# Altium footprint library XT Wonder.PcbLib: 23 footprints (part 1 of 2)
Each footprint in its own frame and in the unit in brackets; x right, y up, seen from the top. Pads: shape width x height; smd on the part's side, far side on the other; paste and mask are expansions set on the pad; w line width, h text height; cw(c..) or ccw(c..) is an arc to the next point about the centre after c.
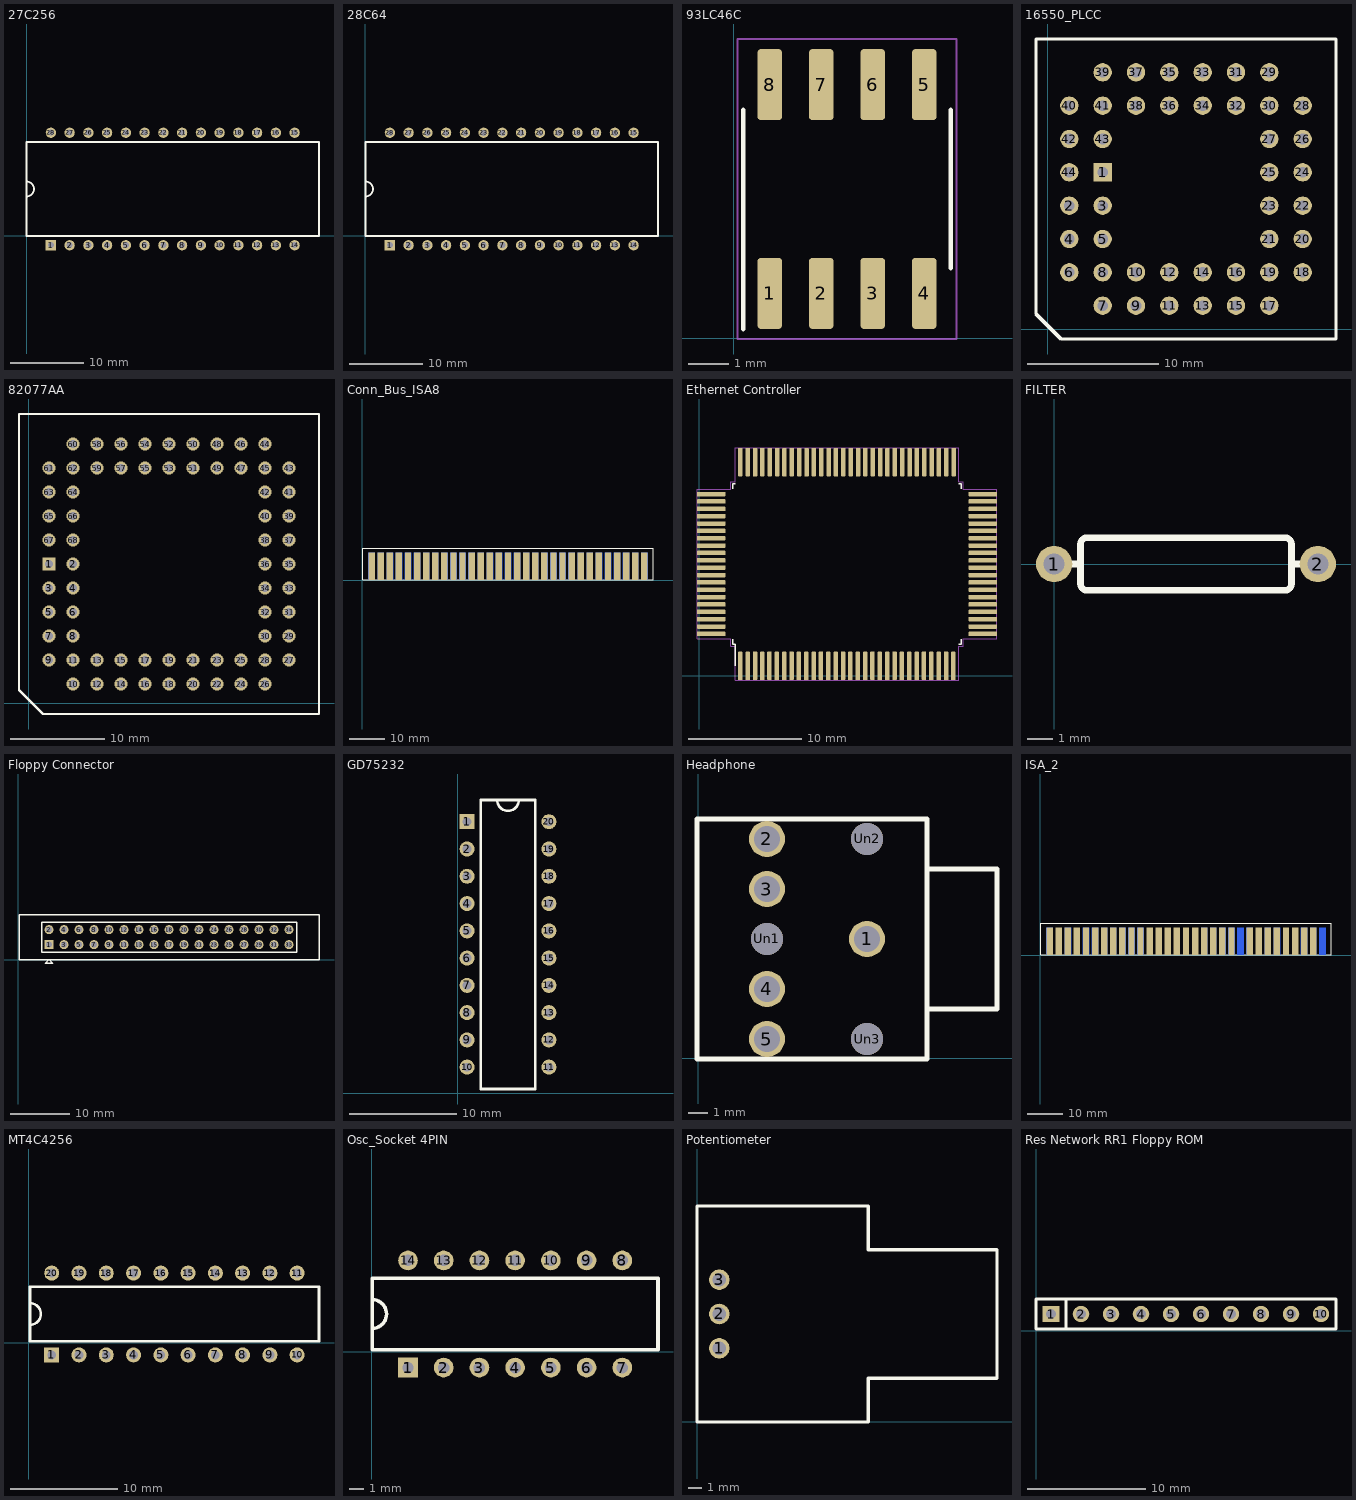
[diagram p0: the footprints below, top view; thin cyan lines are the x and y axes]

## 27C256 [mil]
pads (28):
  rect 55x55 hole 32 paste-55 mask+10: 1(130,-50)
  round 55 hole 32 paste-55 mask+10: 2(230,-50) 3(330,-50) 4(430,-50) 5(530,-50) 6(630,-50) 7(730,-50) 8(830,-50) 9(930,-50) 10(1030,-50) 11(1130,-50) 12(1230,-50) 13(1330,-50) 14(1430,-50) 15(1430,550) 16(1330,550) 17(1230,550) 18(1130,550) 19(1030,550) 20(930,550) 21(830,550) 22(730,550) 23(630,550) 24(530,550) 25(430,550) 26(330,550) 27(230,550) 28(130,550)
Top Overlay:
  lines w10: 0,210 ccw(c0,250) 40,250 ccw(c0,250) 0,290 ; 0,0 1560,0 1560,500 0,500 0,0

## 28C64 [mil]
pads (28):
  rect 55x55 hole 32 paste-55 mask+10: 1(131.8,-50.61)
  round 55 hole 32 paste-55 mask+10: 2(231.8,-50.61) 3(331.8,-50.61) 4(431.8,-50.61) 5(531.8,-50.61) 6(631.8,-50.61) 7(731.8,-50.61) 8(831.8,-50.61) 9(931.8,-50.61) 10(1031.8,-50.61) 11(1131.8,-50.61) 12(1231.8,-50.61) 13(1331.8,-50.61) 14(1431.8,-50.61) 15(1431.8,549.39) 16(1331.8,549.39) 17(1231.8,549.39) 18(1131.8,549.39) 19(1031.8,549.39) 20(931.8,549.39) 21(831.8,549.39) 22(731.8,549.39) 23(631.8,549.39) 24(531.8,549.39) 25(431.8,549.39) 26(331.8,549.39) 27(231.8,549.39) 28(131.8,549.39)
Top Overlay:
  lines w10: 1.8,209.39 ccw(c1.8,249.39) 41.8,249.39 ccw(c1.8,249.39) 1.8,289.39 ; 1.8,-0.61 1561.8,-0.61 1561.8,499.39 1.8,499.39 1.8,-0.61

## 93LC46C [mm]
pads (8):
  rrect25% 0.6x1.75 smd mask+0: 1(0.889,1.108) 2(2.159,1.108) 3(3.429,1.108) 4(4.699,1.108) 5(4.699,6.258) 6(3.429,6.258) 7(2.159,6.258) 8(0.889,6.258)
Top Overlay:
  lines w0.12: 0.234,0.233 0.234,3.683 0.234,5.633 ; 5.354,1.733 5.354,3.683 5.354,5.633
Mechanical 4:
  lines w0.05: 0.094,-0.017 5.494,-0.017 5.494,7.383 0.094,7.383 0.094,-0.017

## 16550_PLCC [mil]
pads (44):
  rect 55x55 hole 32 paste-55 mask+10: 1(165,470)
  round 55 hole 32 paste-55 mask+10: 2(65,370) 3(165,370) 4(65,270) 5(165,270) 6(65,170) 7(165,70) 8(165,170) 9(265,70) 10(265,170) 11(365,70) 12(365,170) 13(465,70) 14(465,170) 15(565,70) 16(565,170) 17(665,70) 18(765,170) 19(665,170) 20(765,270) 21(665,270) 22(765,370) 23(665,370) 24(765,470) 25(665,470) 26(765,570) 27(665,570) 28(765,670) 29(665,770) 30(665,670) 31(565,770) 32(565,670) 33(465,770) 34(465,670) 35(365,770) 36(365,670) 37(265,770) 38(265,670) 39(165,770) 40(65,670) 41(165,670) 42(65,570) 43(165,570) 44(65,470)
Top Overlay:
  lines w10: -35,45 -35,870 865,870 865,-30 40,-30 -35,45

## 82077AA [mil]
pads (68):
  rect 55x55 hole 32 paste-55 mask+10: 1(85,580)
  round 55 hole 32 paste-55 mask+10: 2(185,580) 3(85,480) 4(185,480) 5(85,380) 6(185,380) 7(85,280) 8(185,280) 9(85,180) 10(185,80) 11(185,180) 12(285,80) 13(285,180) 14(385,80) 15(385,180) 16(485,80) 17(485,180) 18(585,80) 19(585,180) 20(685,80) 21(685,180) 22(785,80) 23(785,180) 24(885,80) 25(885,180) 26(985,80) 27(1085,180) 28(985,180) 29(1085,280) 30(985,280) 31(1085,380) 32(985,380) 33(1085,480) 34(985,480) 35(1085,580) 36(985,580) 37(1085,680) 38(985,680) 39(1085,780) 40(985,780) 41(1085,880) 42(985,880) 43(1085,980) 44(985,1080) 45(985,980) 46(885,1080) 47(885,980) 48(785,1080) 49(785,980) 50(685,1080) 51(685,980) 52(585,1080) 53(585,980) 54(485,1080) 55(485,980) 56(385,1080) 57(385,980) 58(285,1080) 59(285,980) 60(185,1080) 61(85,980) 62(185,980) 63(85,880) 64(185,880) 65(85,780) 66(185,780) 67(85,680) 68(185,680)
Top Overlay:
  lines w10: -40,55 60,-45 1210,-45 1210,1205 -40,1205 -40,55

## Conn_Bus_ISA8 [mil]
pads (62):
  rect 70x300 smd far side paste-300 mask+10: 1(3105,155) 2(3005,155) 3(2905,155) 4(2805,155) 5(2705,155) 6(2605,155) 7(2505,155) 8(2405,155) 9(2305,155) 10(2205,155) 11(2105,155) 12(2005,155) 13(1905,155) 14(1805,155) 15(1705,155) 16(1605,155) 17(1505,155) 18(1405,155) 19(1305,155) 20(1205,155) 21(1105,155) 22(1005,155) 23(905,155) 24(805,155) 25(705,155) 26(605,155) 27(505,155) 28(405,155) 29(305,155) 30(205,155) 31(105,155)
  rect 70x300 smd paste-300 mask+10: 32(3105,155) 33(3005,155) 34(2905,155) 35(2805,155) 36(2705,155) 37(2605,155) 38(2505,155) 39(2405,155) 40(2305,155) 41(2205,155) 42(2105,155) 43(2005,155) 44(1905,155) 45(1805,155) 46(1705,155) 47(1605,155) 48(1505,155) 49(1405,155) 50(1305,155) 51(1205,155) 52(1105,155) 53(1005,155) 54(905,155) 55(805,155) 56(705,155) 57(605,155) 58(505,155) 59(405,155) 60(305,155) 61(205,155) 62(105,155)
Top Overlay:
  lines w10: 5,5 5,355 3205,355 3205,5
  lines w12: 5,5 3205,5

## Ethernet Controller [mm]
pads (100):
  rrect25% 0.4x2.5 smd mask+0: 1(3.629,0.858) 2(4.279,0.858) 3(4.929,0.858) 4(5.579,0.858) 5(6.204,0.858) 6(6.854,0.858) 7(7.504,0.858) 8(8.154,0.858) 9(8.804,0.858) 10(9.454,0.858) 11(10.104,0.858) 12(10.754,0.858) 13(11.404,0.858) 14(12.054,0.858) 15(12.704,0.858) 16(13.354,0.858) 17(14.004,0.858) 18(14.654,0.858) 19(15.304,0.858) 20(15.954,0.858) 21(16.604,0.858) 22(17.254,0.858) 23(17.904,0.858) 24(18.554,0.858) 25(19.204,0.858) 26(19.854,0.858) 27(20.504,0.858) 28(21.154,0.858) 29(21.804,0.858) 30(22.454,0.858) 51(22.479,18.858) 52(21.829,18.858) 53(21.179,18.858) 54(20.529,18.858) 55(19.879,18.858) 56(19.229,18.858) 57(18.579,18.858) 58(17.929,18.858) 59(17.279,18.858) 60(16.629,18.858) 61(15.979,18.858) 62(15.329,18.858) 63(14.679,18.858) 64(14.029,18.858) 65(13.379,18.858) 66(12.729,18.858) 67(12.079,18.858) 68(11.429,18.858) 69(10.779,18.858) 70(10.129,18.858) 71(9.479,18.858) 72(8.829,18.858) 73(8.179,18.858) 74(7.529,18.858) 75(6.879,18.858) 76(6.229,18.858) 77(5.579,18.858) 78(4.929,18.858) 79(4.279,18.858) 80(3.629,18.858)
  rrect25% 2.5x0.4 smd mask+0: 31(25.054,3.683) 32(25.054,4.333) 33(25.054,4.983) 34(25.054,5.633) 35(25.054,6.283) 36(25.054,6.933) 37(25.054,7.583) 38(25.054,8.233) 39(25.054,8.883) 40(25.054,9.533) 41(25.054,10.183) 42(25.054,10.833) 43(25.054,11.483) 44(25.054,12.133) 45(25.054,12.783) 46(25.054,13.433) 47(25.054,14.083) 48(25.054,14.733) 49(25.054,15.383) 50(25.054,16.033) 81(1.054,16.033) 82(1.054,15.383) 83(1.054,14.733) 84(1.054,14.083) 85(1.054,13.433) 86(1.054,12.783) 87(1.054,12.133) 88(1.054,11.483) 89(1.054,10.833) 90(1.054,10.183) 91(1.054,9.533) 92(1.054,8.883) 93(1.054,8.233) 94(1.054,7.583) 95(1.054,6.933) 96(1.054,6.283) 97(1.054,5.633) 98(1.054,4.983) 99(1.054,4.333) 100(1.054,3.683)
Top Overlay:
  lines w0.12: 2.944,3.223 2.944,2.748 3.169,2.748 3.169,0.858 ; 2.944,16.493 2.944,16.968 3.169,16.968 ; 22.939,2.748 23.164,2.748 23.164,3.223 ; 22.939,16.968 23.164,16.968 23.164,16.493
Mechanical 4:
  lines w0.05: -0.196,3.238 -0.196,9.858 -0.196,16.478 2.804,16.478 2.804,17.108 3.174,17.108 3.174,20.108 13.054,20.108 22.934,20.108 22.934,17.108 23.304,17.108 23.304,16.478 26.304,16.478 26.304,9.858 26.304,3.238 23.304,3.238 23.304,2.608 22.934,2.608 22.934,-0.392 13.054,-0.392 3.174,-0.392 3.174,2.608 2.804,2.608 2.804,3.238 -0.196,3.238

## FILTER [mil]
pads (2):
  round 55 hole 32 paste-55 mask+10: 1(0,0) 2(400,0)
Top Overlay:
  lines w10: 0,0 40,0 ; 360,0 400,0 ; 40,-30 ccw(c50,-30) 50,-40 350,-40 ccw(c350,-30) 360,-30 360,30 ccw(c350,30) 350,40 50,40 ccw(c50,30) 40,30 40,-30

## Floppy Connector [mil]
pads (34):
  rect 60x60 hole 40 paste-60 mask+10: 1(205,100)
  round 60 hole 40 paste-60 mask+10: 2(205,200) 3(305,100) 4(305,200) 5(405,100) 6(405,200) 7(505,100) 8(505,200) 9(605,100) 10(605,200) 11(705,100) 12(705,200) 13(805,100) 14(805,200) 15(905,100) 16(905,200) 17(1005,100) 18(1005,200) 19(1105,100) 20(1105,200) 21(1205,100) 22(1205,200) 23(1305,100) 24(1305,200) 25(1405,100) 26(1405,200) 27(1505,100) 28(1505,200) 29(1605,100) 30(1605,200) 31(1705,100) 32(1705,200) 33(1805,100) 34(1805,200)
Top Overlay:
  lines w10: 5,0 2005,0 2005,300 5,300 5,0 ; 155,50 155,250 1855,250 1855,50 155,50 ; 180,-25 205,0 230,-25 180,-25

## GD75232 [mil]
pads (20):
  rect 55x55 hole 32 paste-55 mask+10: 1(35,995)
  round 55 hole 32 paste-55 mask+10: 2(35,895) 3(35,795) 4(35,695) 5(35,595) 6(35,495) 7(35,395) 8(35,295) 9(35,195) 10(35,95) 11(335,95) 12(335,195) 13(335,295) 14(335,395) 15(335,495) 16(335,595) 17(335,695) 18(335,795) 19(335,895) 20(335,995)
Top Overlay:
  lines w10: 145,1075 ccw(c185,1075) 185,1035 ccw(c185,1075) 225,1075 ; 85,15 85,1075 285,1075 285,15 85,15

## Headphone [mil]
pads (8):
  round 70.9 hole 51.2 paste-70.9 mask+0: 1(331.9,235) 2(135,431.9) 3(135,333.4) 4(135,136.6) 5(135,38.1)
  round 63 hole 63 paste-63 mask+0: Un1(135,235) Un2(331.9,431.9) Un3(331.9,38.1)
Top Overlay:
  lines w10: 450,97.2 450,372.8 ; 450,97.2 450,-1.2 -2.8,-1.2 -2.8,471.2 450,471.2 450,372.8 ; 450,97.2 587.8,97.2 587.8,372.8 450,372.8

## ISA_2 [mil]
pads (49):
  rect 70x300 smd far side paste-300 mask+10: 1(3105,152.5) 2(3005,152.5) 3(2905,152.5) 6(2605,152.5) 7(2505,152.5) 9(2305,152.5) 10(2205,152.5) 11(2105,152.5) 12(2005,152.5) 13(1905,152.5) 14(1805,152.5) 21(1105,152.5) 22(1005,152.5) 23(905,152.5) 24(805,152.5) 25(705,152.5) 26(605,152.5) 27(505,152.5) 29(305,152.5) 31(105,152.5)
  rect 70x300 smd paste-300 mask+10: 33(3005,152.5) 34(2905,152.5) 35(2805,152.5) 36(2705,152.5) 37(2605,152.5) 38(2505,152.5) 39(2405,152.5) 40(2305,152.5) 42(2105,152.5) 43(2005,152.5) 44(1905,152.5) 45(1805,152.5) 46(1705,152.5) 47(1605,152.5) 48(1505,152.5) 49(1405,152.5) 50(1305,152.5) 51(1205,152.5) 52(1105,152.5) 53(1005,152.5) 54(905,152.5) 55(805,152.5) 56(705,152.5) 57(605,152.5) 58(505,152.5) 59(405,152.5) 60(305,152.5) 61(205,152.5) 62(105,152.5)
Top Overlay:
  lines w10: 5,2.5 5,352.5 3205,352.5 3205,2.5
  lines w12: 5,2.5 3205,2.5

## MT4C4256 [mil]
pads (20):
  rect 55x55 hole 32 paste-55 mask+10: 1(85,-45)
  round 55 hole 32 paste-55 mask+10: 2(185,-45) 3(285,-45) 4(385,-45) 5(485,-45) 6(585,-45) 7(685,-45) 8(785,-45) 9(885,-45) 10(985,-45) 11(985,255) 12(885,255) 13(785,255) 14(685,255) 15(585,255) 16(485,255) 17(385,255) 18(285,255) 19(185,255) 20(85,255)
Top Overlay:
  lines w10: 5,65 ccw(c5,105) 45,105 ccw(c5,105) 5,145 ; 5,5 5,205 1065,205 1065,5 5,5

## Osc_Socket 4PIN [mil]
pads (14):
  rect 55x55 hole 32 paste-55 mask+10: 1(102.17,-44.76)
  round 55 hole 32 paste-55 mask+10: 2(202.17,-44.76) 3(302.17,-44.76) 4(402.17,-44.76) 5(502.17,-44.76) 6(602.17,-44.76) 7(702.17,-44.76) 8(702.17,255.24) 9(602.17,255.24) 10(502.17,255.24) 11(402.17,255.24) 12(302.17,255.24) 13(202.17,255.24) 14(102.17,255.24)
Top Overlay:
  lines w10: 2.17,65.24 ccw(c2.17,105.24) 42.17,105.24 ccw(c2.17,105.24) 2.17,145.24 ; 2.17,5.24 2.17,205.24 802.17,205.24 802.17,5.24 2.17,5.24

## Potentiometer [mil]
pads (3):
  round 60 hole 40 paste-60 mask+0: 1(65,215) 2(65,315) 3(65,415)
Top Overlay:
  lines w10: 0,0 500,0 500,127.5 875,127.5 875,502.5 500,502.5 500,630 0,630 0,0

## Res Network RR1 Floppy ROM [mil]
pads (10):
  rect 55x55 hole 32 paste-55 mask+10: 1(50,55)
  round 55 hole 32 paste-55 mask+10: 2(150,55) 3(250,55) 4(350,55) 5(450,55) 6(550,55) 7(650,55) 8(750,55) 9(850,55) 10(950,55)
Top Overlay:
  lines w10: 100,5 100,105 ; 0,5 1000,5 1000,105 0,105 0,5